# Altium integrated library W25Q128JVPIQ.IntLib: 2 symbols
Pins are listed as number, name and electrical type; pins without a type are passive.

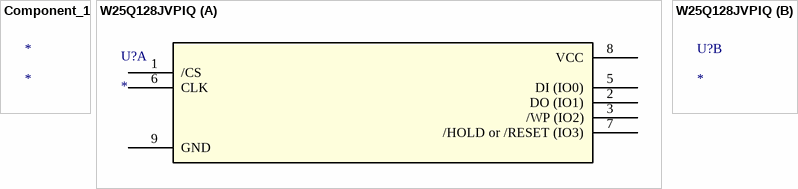
[diagram p0: symbols Component_1 to W25Q128JVPIQ]

## Component_1
designator *

## W25Q128JVPIQ
designator U?
No Description Available; Mfr_Name: Winbond; RefDes: RefDes; Type: Type
footprint WSON_128JVPIQ_WIN
part A pins: 1 /CS, 2 DO (IO1), 3 /WP (IO2), 5 DI (IO0), 6 CLK, 7 /HOLD or /RESET (IO3), 8 VCC (power), 9 GND